# EAGLE library part CC2540F* (library _hhn_CC2540F_BluetoothSOC_r500)
CC2540F128 / CCF254F256 Texas Instruments 2.4-GHz Bluetooth® low Energy System-on-Chip Package: QFN406x6mm (TI-Postifx "RHA") Dipl.-Ing. FH Rainer Bayer Hochschule Heilbronn – rainer.bayer@hs-heilbronn.de Ingenieurbüro ing-rb – eagle@ing-rb.de
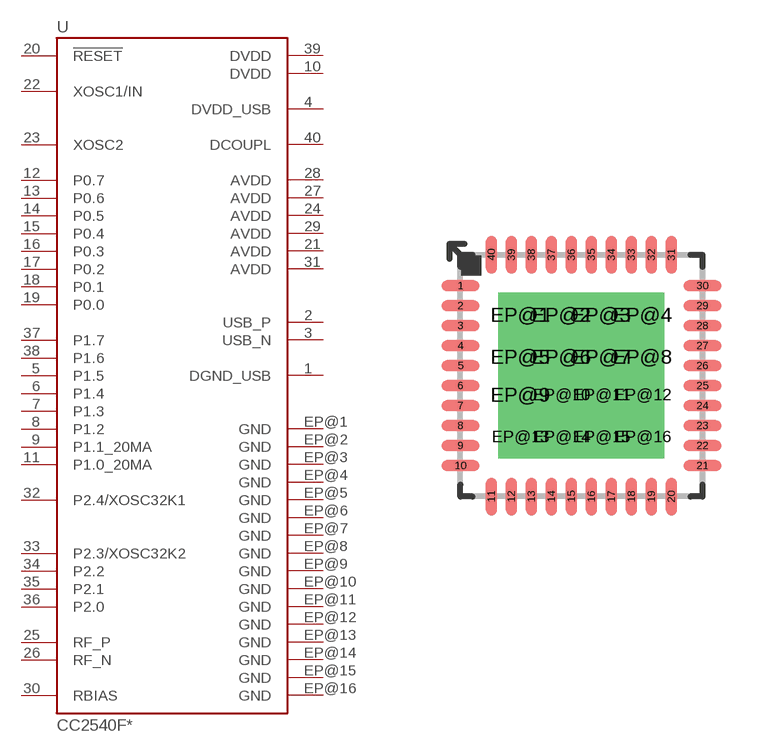
[diagram p0: symbol with the pads of QFN40-6X6; footprint QFN40-6X6]

Designator prefix U

## CC2540F128RHA, CC2540F256RHA  [QFN40-6X6]
1  DGND_USB  pwr
2  USB_P  pas
3  USB_N  pas
4  DVDD_USB  pwr
5  P1.5
6  P1.4
7  P1.3
8  P1.2
9  P1.1_20MA
10  DVDD  pwr
11  P1.0_20MA
12  P0.7
13  P0.6
14  P0.5
15  P0.4
16  P0.3
17  P0.2
18  P0.1
19  P0.0
20  !RESET  in
21  AVDD  pwr
22  XOSC1/IN  pas
23  XOSC2  pas
24  AVDD  pwr
25  RF_P  pas
26  RF_N  pas
27  AVDD  pwr
28  AVDD  pwr
29  AVDD  pwr
30  RBIAS  pas
31  AVDD  pwr
32  P2.4/XOSC32K1  pas
33  P2.3/XOSC32K2  pas
34  P2.2
35  P2.1
36  P2.0
37  P1.7
38  P1.6
39  DVDD  pwr
40  DCOUPL  pwr
EP@1  GND  pwr
EP@2  GND  pwr
EP@3  GND  pwr
EP@4  GND  pwr
EP@5  GND  pwr
EP@6  GND  pwr
EP@7  GND  pwr
EP@8  GND  pwr
EP@9  GND  pwr
EP@10  GND  pwr
EP@11  GND  pwr
EP@12  GND  pwr
EP@13  GND  pwr
EP@14  GND  pwr
EP@15  GND  pwr
EP@16  GND  pwr

## Footprint QFN40-6X6 (pad centres in mm)
RHA (S-PQFP-N40) 6 x 6 mm Source: http://focus.ti.com/lit/ds/symlink/tps65020.pdf
smd 0.95 x 0.28: 1 -3.025,2.25; 2 -3.025,1.75; 3 -3.025,1.25; 4 -3.025,0.75; 5 -3.025,0.25; 6 -3.025,-0.25; 7 -3.025,-0.75; 8 -3.025,-1.25; 9 -3.025,-1.75; 10 -3.025,-2.25; 21 3.025,-2.25; 22 3.025,-1.75; 23 3.025,-1.25; 24 3.025,-0.75; 25 3.025,-0.25; 26 3.025,0.25; 27 3.025,0.75; 28 3.025,1.25; 29 3.025,1.75; 30 3.025,2.25
smd 0.28 x 0.95: 11 -2.25,-3.025; 12 -1.75,-3.025; 13 -1.25,-3.025; 14 -0.75,-3.025; 15 -0.25,-3.025; 16 0.25,-3.025; 17 0.75,-3.025; 18 1.25,-3.025; 19 1.75,-3.025; 20 2.25,-3.025; 31 2.25,3.025; 32 1.75,3.025; 33 1.25,3.025; 34 0.75,3.025; 35 0.25,3.025; 36 -0.25,3.025; 37 -0.75,3.025; 38 -1.25,3.025; 39 -1.75,3.025; 40 -2.25,3.025
drill 0.3 pad 1.1 square: EP@1 -1.525,1.525; EP@2 -0.5,1.525; EP@3 0.5,1.525; EP@4 1.525,1.525; EP@5 -1.525,0.475; EP@6 -0.5,0.475; EP@7 0.5,0.475; EP@8 1.525,0.475; EP@9 -1.525,-0.475; EP@10 -0.5,-0.475; EP@11 0.5,-0.475; EP@12 1.525,-0.475; EP@13 -1.525,-1.525; EP@14 -0.5,-1.525; EP@15 0.5,-1.525; EP@16 1.525,-1.525